# EAGLE library part M24C02-FDW6TP (library ICs)
EEPROM Memory IC 2Kb (256 x 8) I²C 400kHz 900ns 8-TSSOP
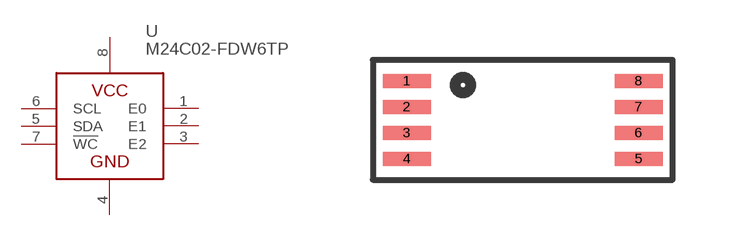
[diagram p198: symbol with the pads of TSSOP8_4.5MM; footprint TSSOP8_4.5MM]

Designator prefix U

## M24C02-FDW6TP (DIGIKEY: 497-15746-1-ND; HEIGHT: 1; PRICE_PER: 0.11; VALUE: 2kB EEPROM)  [TSSOP8_4.5MM]
1  E0
2  E1
3  E2
4  GND
5  SDA
6  SCL
7  !WC
8  VCC

## Footprint TSSOP8_4.5MM (pad centres in mm)
smd 1.2 x 0.35: 1 -2.9,0.975; 2 -2.9,0.325; 3 -2.9,-0.325; 4 -2.9,-0.975; 5 2.9,-0.975; 6 2.9,-0.325; 7 2.9,0.325; 8 2.9,0.975